# Altium schematic symbol library Capacitors.SchLib: 13 symbols
Pins are listed as number, name and electrical type; pins without a type are passive.

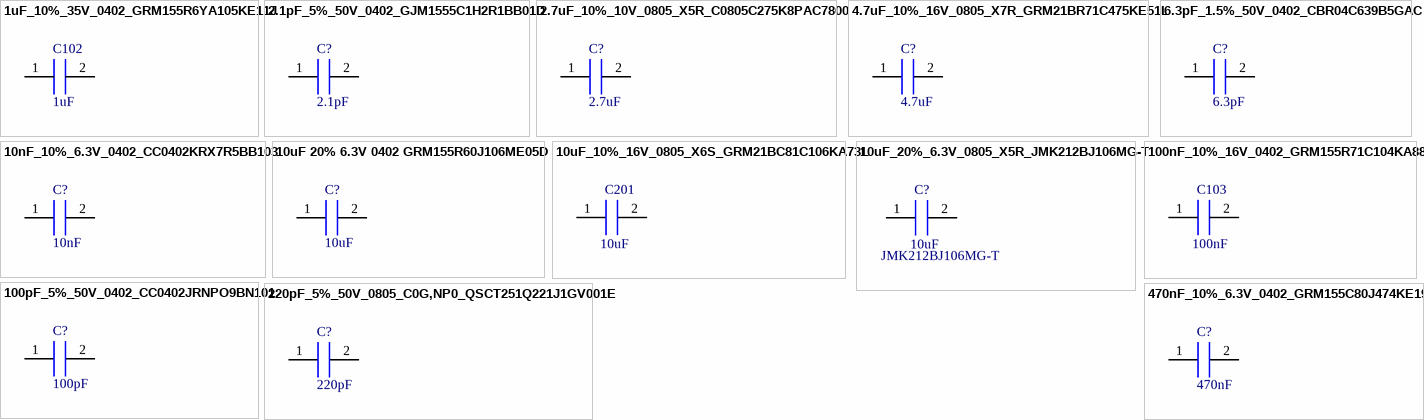
[diagram p0: symbols 1uF_10%_35V_0402_GRM155R6YA105KE11J to 470nF_10%_6.3V_0402_GRM155C80J474KE19D]

## 1uF_10%_35V_0402_GRM155R6YA105KE11J
designator C102  value 1uF  (hidden comment: 1uF_10%_35V_0402_GRM155R6YA105KE11J)
CAPACITOR 1uF 10% X5R 0402; MANUFACTURER: MURATA; VOLTAGE RATING: 35V; DIELECTRIC: X5R; TOLERANCE: 10%; MOUNTING: SMD; MANUFACTURER REFERENCE: GRM155R6YA105KE11J; PACKAGING: 0402
footprint CAP_0402
pins: 1, 2

## 2.1pF_5%_50V_0402_GJM1555C1H2R1BB01D
designator C?  value 2.1pF  (hidden comment: 2.1pF_5%_50V_0402_GJM1555C1H2R1BB01D)
CAPACITOR 2.1pF 5% 50V 0402 GJM1555C1H2R1BB01D; MANUFACTURER: MURATA; DIELECTRIC: C0G, NP0; TOLERANCE: 5%; VOLTAGE RATING: 50V; PACKAGING: 0402; MOUNTING: SMD; MANUFACTURER REFERENCE: GJM1555C1H2R1BB01D
footprint CAP_0402
pins: 1, 2

## 2.7uF_10%_10V_0805_X5R_C0805C275K8PAC7800
designator C?  value 2.7uF  (hidden comment: 2.7uF_10%_10V_0805_X5R_C0805C275K8PAC7800)
CAP 2.7uF 10% 10V 0805 X5R C0805C275K8PAC7800; MANUFACTURER: KEMET; DIELECTRIC: X5R; TOLERANCE: 10%; VOLTAGE RATING: 10V; PACKAGING: 0805; MOUNTING: SMD; MANUFACTURER REFERENCE: C0805C275K8PAC7800
footprint CAP_0805
pins: 1, 2

## 4.7uF_10%_16V_0805_X7R_GRM21BR71C475KE51L
designator C?  value 4.7uF  (hidden comment: 4.7uF_10%_16V_0805_X7R_GRM21BR71C475KE51L)
CAP 4.7uF 10% 16V 0805 X7R; MANUFACTURER: MURATA; DIELECTRIC: X7R; TOLERANCE: 10%; VOLTAGE RATING: 16V; PACKAGING: 0805; MOUNTING: SMD; MANUFACTURER REFERENCE: GRM21BR71C475KE51L
footprint CAP_0805
pins: 1, 2

## 6.3pF_1.5%_50V_0402_CBR04C639B5GAC
designator C?  value 6.3pF  (hidden comment: 6.3pF_1.5%_50V_0402_CBR04C639B5GAC)
CAPACITOR 6.3pF 1.5% 50V 0402 CBR04C639B5GAC; MANUFACTURER: KEMET; DIELECTRIC: C0G, NP0; TOLERANCE: 1.5%; VOLTAGE RATING: 50V; PACKAGING: 0402; MOUNTING: SMD; MANUFACTURER REFERENCE: CBR04C639B5GAC
footprint CAP_0402
pins: 1, 2

## 10nF_10%_6.3V_0402_CC0402KRX7R5BB103
designator C?  value 10nF  (hidden comment: 10nF_10%_6.3V_0402_CC0402KRX7R5BB103)
CAPACITOR 10nF 10% 6.3V 0402 CC0402KRX7R5BB103; MANUFACTURER: YAGEO; DIELECTRIC: X7R; TOLERANCE: 10%; VOLTAGE RATING: 6.3V; PACKAGING: 0402; MOUNTING: SMD; MANUFACTURER REFERENCE: CC0402KRX7R5BB103
footprint CAP_0402
pins: 1, 2

## 10uF 20% 6.3V 0402 GRM155R60J106ME05D
designator C?, comment value 10uF  (hidden comment: 10uF_20%_6.3V_0402_GRM155R60J106ME05D)
CAPACITOR 10uF 20% 6.3V 0402 GRM155R60J106ME05D; MANUFACTURER: MURATA; DIELECTRIC: X5R; TOLERANCE: 20%; VOLTAGE RATING: 6.3V; PACKAGING: 0402; MOUNTING: SMD; MANUFACTURER REFERENCE: GRM155R60J106ME05D
footprint CAP_0402
pins: 1, 2

## 10uF_10%_16V_0805_X6S_GRM21BC81C106KA73L
designator C201  value 10uF  (hidden comment: 10uF_10%_16V_0805_X6S_GRM21BC81C106KA73L)
CAP 10uF 10% 16V 0805 X6S; MANUFACTURER: MURATA; DIELECTRIC: X6S; TOLERANCE: 10%; VOLTAGE RATING: 16V; PACKAGING: 0805; MOUNTING: SMD; MANUFACTURER REFERENCE: GRM21BC81C106KA73L
footprint CAP_0805
pins: 1, 2

## 10uF_20%_6.3V_0805_X5R_JMK212BJ106MG-T
designator C?  value 10uF  MANUFACTURER REFERENCE: JMK212BJ106MG-T  (hidden comment: 10uF_20%_6.3V_0805_X5R_JMK212BJ106MG-T)
CAP 10uF 20% 6.3V 0805 X5R; MANUFACTURER: TAYIO YUDEN; DIELECTRIC: X5R; TOLERANCE: 20%; VOLTAGE RATING: 6.3V; PACKAGING: 0805; MOUNTING: SMD
footprint CAP_0805
pins: 1, 2

## 100nF_10%_16V_0402_GRM155R71C104KA88J
designator C103  value 100nF  (hidden comment: 100nF_10%_16V_0402_GRM155R71C104KA88J)
CAPACITOR 100nF 10% X7R 0402; MANUFACTURER: MURATA; VOLTAGE RATING: 16V; DIELECTRIC: X7R; TOLERANCE: 10%; MOUNTING: SMD; MANUFACTURER REFERENCE: GRM155R71C104KA88J; PACKAGING: 0402
footprint CAP_0402
pins: 1, 2

## 100pF_5%_50V_0402_CC0402JRNPO9BN101
designator C?  value 100pF  (hidden comment: 100pF_5%_50V_0402_CC0402JRNPO9BN101)
CAPACITOR 100pF 5% 50V 0402 CC0402JRNPO9BN101; MANUFACTURER: YAGEO; DIELECTRIC: C0G, NP0; TOLERANCE: 5%; VOLTAGE RATING: 50V; PACKAGING: 0402; MOUNTING: SMD; MANUFACTURER REFERENCE: CC0402JRNPO9BN101
footprint CAP_0402
pins: 1, 2

## 220pF_5%_50V_0805_C0G,NP0_QSCT251Q221J1GV001E
designator C?  value 220pF  (hidden comment: 220pF_5%_50V_0805_C0G,NP0_QSCT251Q221J1GV001E)
CAP 220pF 5% 50V 0805 C0G,NP0; MANUFACTURER: JOHANSON TECHLONOGY; DIELECTRIC: C0G, NP0; TOLERANCE: 5%; VOLTAGE RATING: 50V; PACKAGING: 0805; MOUNTING: SMD; MANUFACTURER REFERENCE: QSCT251Q221J1GV001E
footprint CAP_0805
pins: 1, 2

## 470nF_10%_6.3V_0402_GRM155C80J474KE19D
designator C?  value 470nF  (hidden comment: 470nF_10%_6.3V_0402_GRM155C80J474KE19D)
CAPACITOR 470nF 10% 6.3V 0402 GRM155C80J474KE19D; MANUFACTURER: MURATA; DIELECTRIC: X6S; TOLERANCE: 10%; VOLTAGE RATING: 6.3V; PACKAGING: 0402; MOUNTING: SMD; MANUFACTURER REFERENCE: GRM155C80J474KE19D
footprint CAP_0402
pins: 1, 2